# Altium footprint library PcbLib2.PcbLib: 6 footprints
Each footprint in its own frame and in the unit in brackets; x right, y up, seen from the top. Pads: shape width x height; smd on the part's side, far side on the other; paste and mask are expansions set on the pad; w line width, h text height; cw(c..) or ccw(c..) is an arc to the next point about the centre after c.
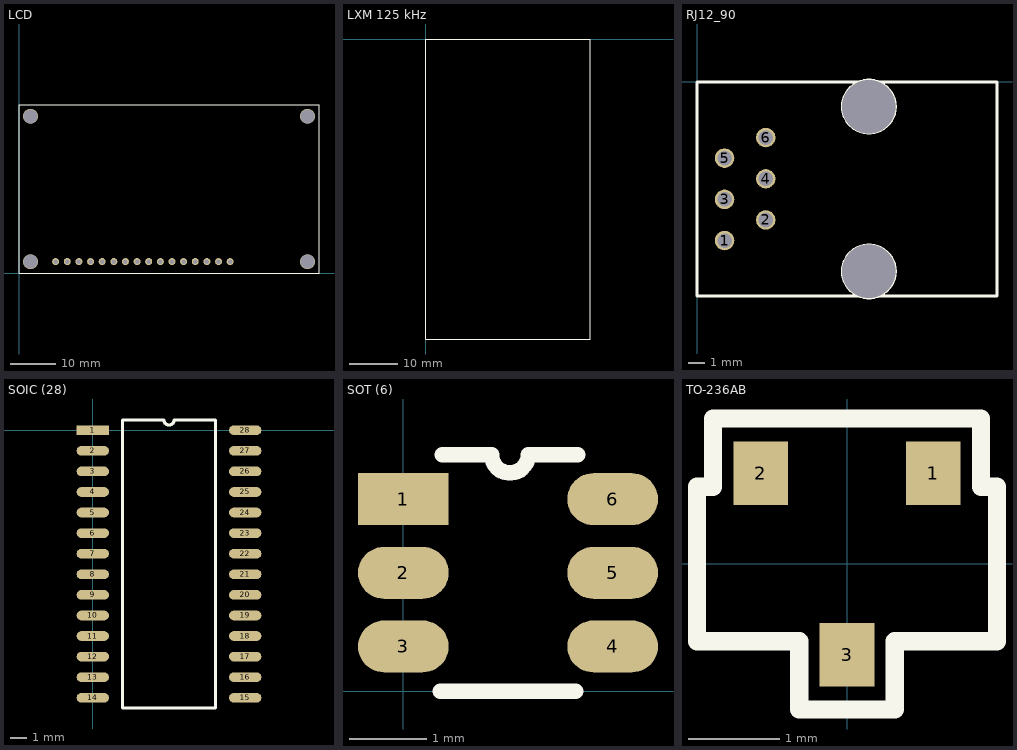
[diagram p0: the footprints below, top view; thin cyan lines are the x and y axes]

## LCD [mm]
pads (16):
  round 1.524 hole 1: 1(8,2.5) 2(10.54,2.5) 3(13.08,2.5) 4(15.62,2.5) 5(18.16,2.5) 6(20.7,2.5) 7(23.24,2.5) 8(25.78,2.5) 9(28.32,2.5) 10(30.86,2.5) 11(33.4,2.5) 12(35.94,2.5) 13(38.48,2.5) 14(41.02,2.5) 15(43.56,2.5) 16(46.1,2.5)
via 2.5,2.5 diameter 3.2 hole 3
via 2.5,34.2 diameter 3.2 hole 3
via 63,34.2 diameter 3.2 hole 3
via 63,2.5 diameter 3.2 hole 3
Top Overlay:
  lines w0.254: 0,0 0,36.7 65.5,36.7 65.5,0 28.8,0 0,0

## LXM 125 kHz [mm]
Top Overlay:
  lines w0.254: 0,-62 0,0 34,0 34,-62 0,-62

## RJ12_90 [mm]
pads (6):
  round 1.2 hole 0.9: 1(1.7,-9.78) 2(4.24,-8.51) 3(1.7,-7.24) 4(4.24,-5.97) 5(1.7,-4.7) 6(4.24,-3.43)
via 10.6,-11.68 diameter 3.3 hole 3.3
via 10.6,-1.52 diameter 3.3 hole 3.3
Top Overlay:
  circle w0.2: c10.6,-1.52 r1.625
  circle w0.2: c10.6,-11.68 r1.625
  lines w0.2: 0,-13.2 18.5,-13.2 18.5,0 0,0 0,-13.2

## SOIC (28) [mm]
pads (28):
  rect 2x0.6 smd: 1(0,0)
  oval 2x0.6 smd: 2(0,-1.27) 3(0,-2.54) 4(0,-3.81) 5(0,-5.08) 6(0,-6.35) 7(0,-7.62) 8(0,-8.89) 9(0,-10.16) 10(0,-11.43) 11(0,-12.7) 12(0,-13.97) 13(0,-15.24) 14(0,-16.51) 15(9.4,-16.51) 16(9.4,-15.24) 17(9.4,-13.97) 18(9.4,-12.7) 19(9.4,-11.43) 20(9.4,-10.16) 21(9.4,-8.89) 22(9.4,-7.62) 23(9.4,-6.35) 24(9.4,-5.08) 25(9.4,-3.81) 26(9.4,-2.54) 27(9.4,-1.27) 28(9.4,0)
Top Overlay:
  lines w0.2: 1.835,-17.145 1.835,0.635 4.382,0.635 ccw(c4.7,0.635) 5.017,0.635 7.565,0.635 7.565,-17.145 1.835,-17.145

## SOT (6) [mm]
pads (6):
  rect 1.17x0.67 smd: 1(0,2.475)
  oval 1.17x0.67 smd: 2(0,1.525) 3(0,0.575) 4(2.7,0.575) 5(2.7,1.525) 6(2.7,2.475)
Top Overlay:
  lines w0.2: 0.475,0 2.225,0 ; 0.5,3.05 1.125,3.05 ; 1.138,3.05 ccw(c1.375,3.05) 1.613,3.05 ; 1.625,3.05 2.25,3.05

## TO-236AB [mm]
pads (3):
  rect 0.6x0.7 smd: 1(0.95,1) 2(-0.95,1) 3(0,-1)
Top Overlay:
  lines w0.2: -1.65,-0.85 -1.65,0.85 -1.475,0.85 -1.475,1.6 0,1.6 1.475,1.6 1.475,0.85 1.65,0.85 1.65,-0.85 0.525,-0.85 0.525,-1.6 0,-1.6 -0.525,-1.6 -0.525,-0.85 -1.65,-0.85